# Altium schematic symbol library IC. MCU.SchLib: 24 symbols (part 2 of 2)
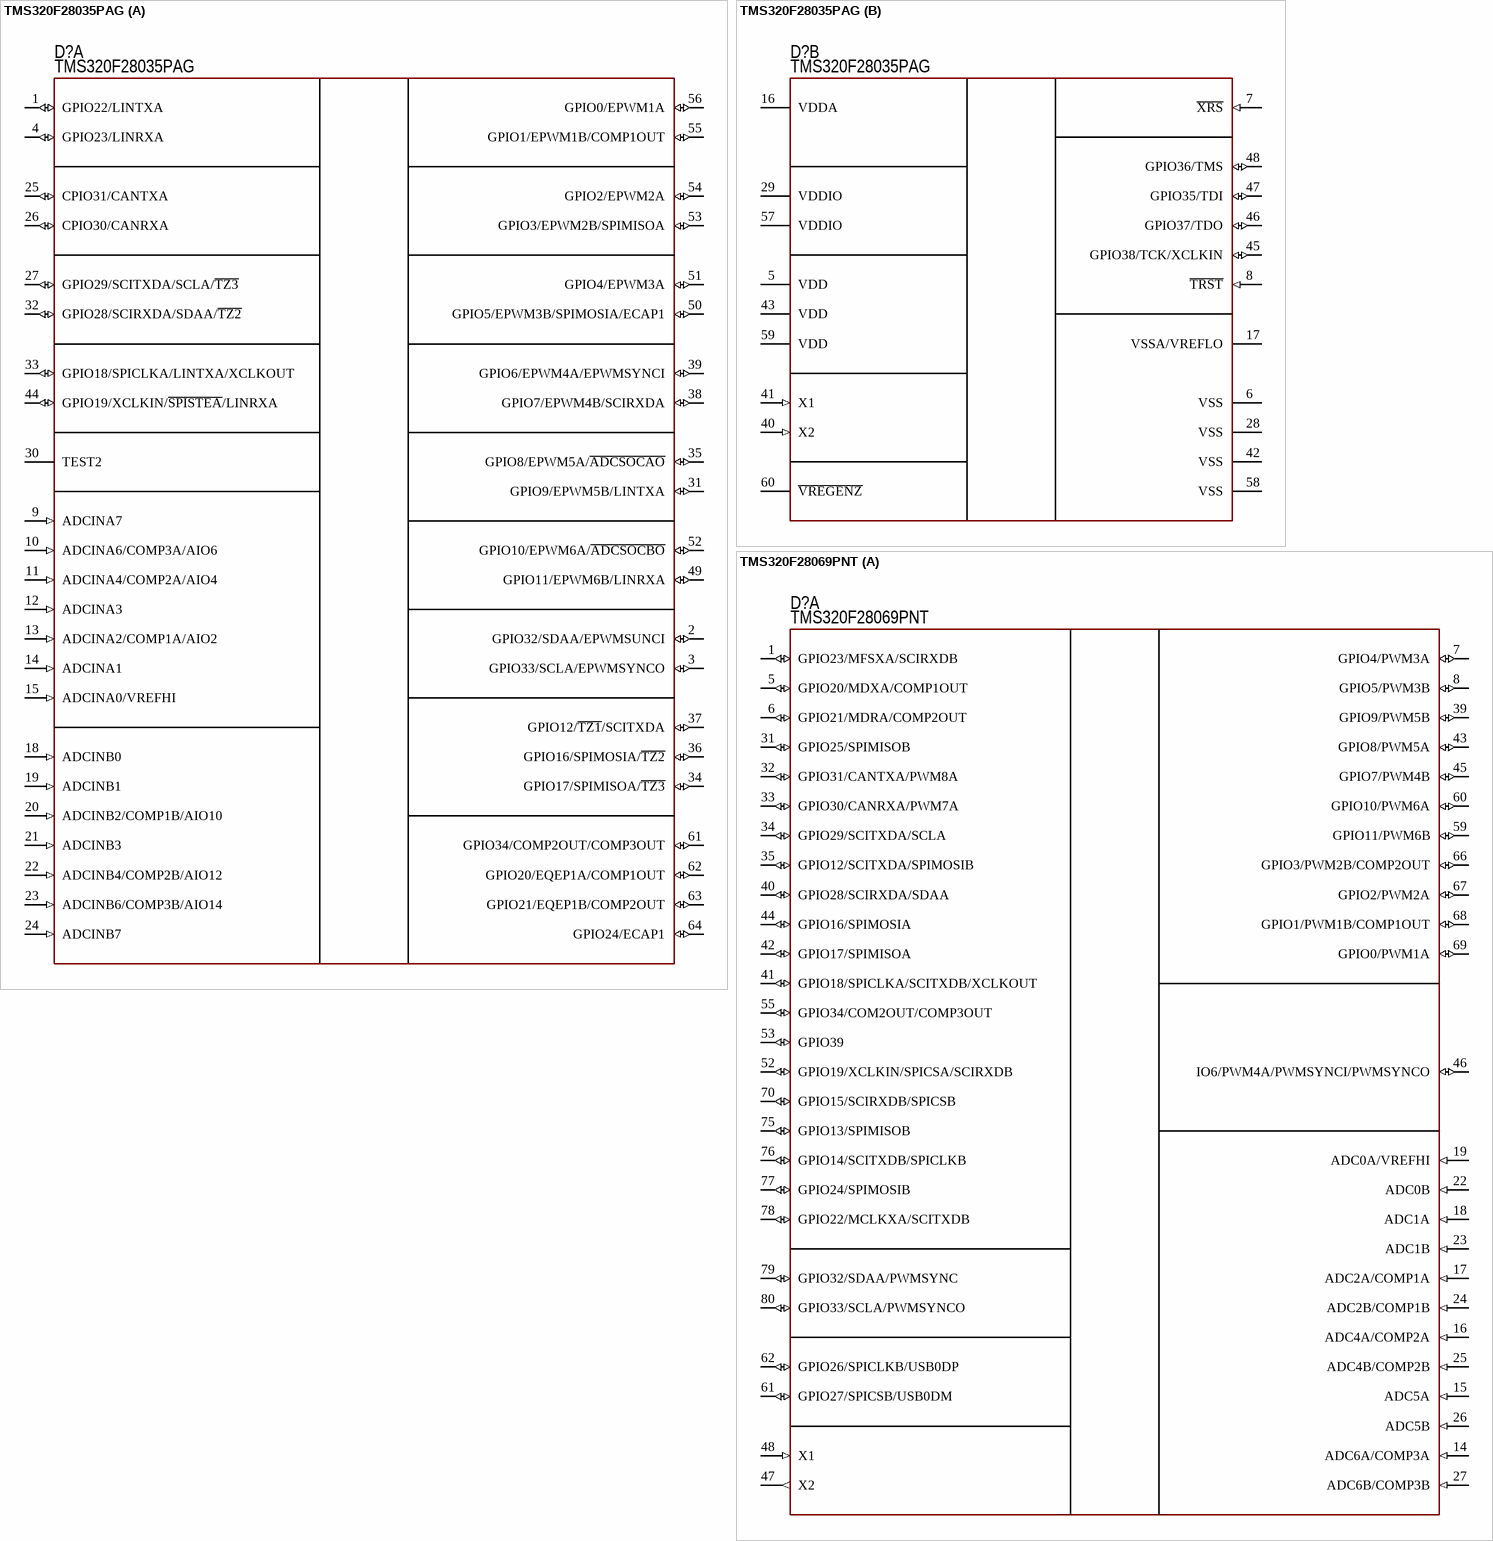
[diagram p12: symbols TMS320F28035PAG to TMS320F28069PNT]

## TMS320F28035PAG
designator D?  PartNumber: TMS320F28035PAG
C28 Piccolo; Manufacturer: Texas Instruments; ValueManufacturerPartNumber: IC motor control, 32-Bit, C28 Piccolo, 60MHz, 128KB, 20KB, 1.71...3.6V, -40...+105°C, 64-TQFP; Supply: 1.71...3.6V; Speed: 60MHz; CoreSize: 32-Bit; MemoryROM: 128KB; MemoryRAM: 20KB; HelpURL: https://www.digikey.com/product-detail/en/texas-instruments/TMS320F28035PAGT/296-32762-ND/2232707; Package: 64-TQFP; ComponentType: IC motor control; Temperature: -40...+105°C; CoreProcessor: C28 Piccolo
footprint 64-LQFP (Thin QFP, 64-Leads, Body 10x10mm, Pitch 0.5mm, IPC Medium Density)
part A pins: 1 GPIO22/LINTXA (io), 2 GPIO32/SDAA/EPWMSUNCI (io), 3 GPIO33/SCLA/EPWMSYNCO (io), 4 GPIO23/LINRXA (io), 9 ADCINA7 (in), 10 ADCINA6/COMP3A/AIO6 (in), 11 ADCINA4/COMP2A/AIO4 (in), 12 ADCINA3 (in), 13 ADCINA2/COMP1A/AIO2 (in), 14 ADCINA1 (in), 15 ADCINA0/VREFHI (in), 18 ADCINB0 (in), 19 ADCINB1 (in), 20 ADCINB2/COMP1B/AIO10 (in), 21 ADCINB3 (in), 22 ADCINB4/COMP2B/AIO12 (in), 23 ADCINB6/COMP3B/AIO14 (in), 24 ADCINB7 (in), 25 CPIO31/CANTXA (io), 26 CPIO30/CANRXA (io), 27 GPIO29/SCITXDA/SCLA/~{TZ3} (io), 30 TEST2, 31 GPIO9/EPWM5B/LINTXA (io), 32 GPIO28/SCIRXDA/SDAA/~{TZ2} (io), 33 GPIO18/SPICLKA/LINTXA/XCLKOUT (io), 34 GPIO17/SPIMISOA/~{TZ3} (io), 35 GPIO8/EPWM5A/~{ADCSOCAO} (io), 36 GPIO16/SPIMOSIA/~{TZ2} (io), 37 GPIO12/~{TZ1}/SCITXDA (io), 38 GPIO7/EPWM4B/SCIRXDA (io), 39 GPIO6/EPWM4A/EPWMSYNCI (io), 44 GPIO19/XCLKIN/~{SPISTEA}/LINRXA (io), 49 GPIO11/EPWM6B/LINRXA (io), 50 GPIO5/EPWM3B/SPIMOSIA/ECAP1 (io), 51 GPIO4/EPWM3A (io), 52 GPIO10/EPWM6A/~{ADCSOCBO} (io), 53 GPIO3/EPWM2B/SPIMISOA (io), 54 GPIO2/EPWM2A (io), 55 GPIO1/EPWM1B/COMP1OUT (io), 56 GPIO0/EPWM1A (io), 61 GPIO34/COMP2OUT/COMP3OUT (io), 62 GPIO20/EQEP1A/COMP1OUT (io), 63 GPIO21/EQEP1B/COMP2OUT (io), 64 GPIO24/ECAP1 (io)
part B pins: 5 VDD, 6 VSS, 7 ~{XRS} (in), 8 ~{TRST} (in), 16 VDDA, 17 VSSA/VREFLO, 28 VSS, 29 VDDIO, 40 X2 (in), 41 X1 (in), 42 VSS, 43 VDD, 45 GPIO38/TCK/XCLKIN (io), 46 GPIO37/TDO (io), 47 GPIO35/TDI (io), 48 GPIO36/TMS (io), 57 VDDIO, 58 VSS, 59 VDD, 60 ~{VREGENZ}

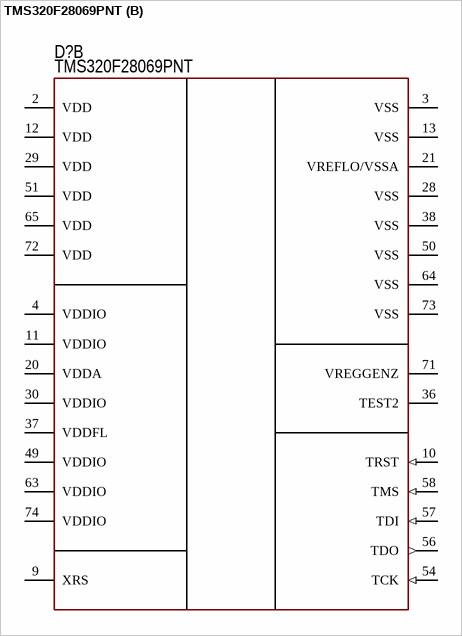
[diagram p11: symbol TMS320F28069PNT]

## TMS320F28069PNT
designator D?  PartNumber: TMS320F28069PNT
C28 Piccolo; Manufacturer: Texas Instruments; ValueManufacturerPartNumber: IC motor control, 32-Bit, C28 Piccolo, 90MHz, 256KB, 100KB, 1.71...3.6V, -40...+105°C, 64-TQFP; Supply: 1.71...3.6V; Speed: 90MHz; CoreSize: 32-Bit; MemoryROM: 256KB; MemoryRAM: 100KB; HelpURL: https://www.digikey.com/products/en?keywords=TMS320F28069PNT; Package: 64-TQFP; ComponentType: IC motor control; Temperature: -40...+105°C; CoreProcessor: C28 Piccolo
footprint 80-LQFP (pitch 0.5 mm)
part A pins: 1 GPIO23/MFSXA/SCIRXDB (io), 5 GPIO20/MDXA/COMP1OUT (io), 6 GPIO21/MDRA/COMP2OUT (io), 7 GPIO4/PWM3A (io), 8 GPIO5/PWM3B (io), 14 ADC6A/COMP3A (in), 15 ADC5A (in), 16 ADC4A/COMP2A (in), 17 ADC2A/COMP1A (in), 18 ADC1A (in), 19 ADC0A/VREFHI (in), 22 ADC0B (in), 23 ADC1B (in), 24 ADC2B/COMP1B (in), 25 ADC4B/COMP2B (in), 26 ADC5B (in), 27 ADC6B/COMP3B (in), 31 GPIO25/SPIMISOB (io), 32 GPIO31/CANTXA/PWM8A (io), 33 GPIO30/CANRXA/PWM7A (io), 34 GPIO29/SCITXDA/SCLA (io), 35 GPIO12/SCITXDA/SPIMOSIB (io), 39 GPIO9/PWM5B (io), 40 GPIO28/SCIRXDA/SDAA (io), 41 GPIO18/SPICLKA/SCITXDB/XCLKOUT (io), 42 GPIO17/SPIMISOA (io), 43 GPIO8/PWM5A (io), 44 GPIO16/SPIMOSIA (io), 45 GPIO7/PWM4B (io), 46 IO6/PWM4A/PWMSYNCI/PWMSYNCO (io), 47 X2 (out), 48 X1 (in), 52 GPIO19/XCLKIN/SPICSA/SCIRXDB (io), 53 GPIO39 (io), 55 GPIO34/COM2OUT/COMP3OUT (io), 59 GPIO11/PWM6B (io), 60 GPIO10/PWM6A (io), 61 GPIO27/SPICSB/USB0DM (io), 62 GPIO26/SPICLKB/USB0DP (io), 66 GPIO3/PWM2B/COMP2OUT (io), 67 GPIO2/PWM2A (io), 68 GPIO1/PWM1B/COMP1OUT (io), 69 GPIO0/PWM1A (io), 70 GPIO15/SCIRXDB/SPICSB (io), 75 GPIO13/SPIMISOB (io), 76 GPIO14/SCITXDB/SPICLKB (io), 77 GPIO24/SPIMOSIB (io), 78 GPIO22/MCLKXA/SCITXDB (io), 79 GPIO32/SDAA/PWMSYNC (io), 80 GPIO33/SCLA/PWMSYNCO (io)
part B pins: 2 VDD, 3 VSS (power), 4 VDDIO (power), 9 XRS, 10 TRST (in), 11 VDDIO (power), 12 VDD (power), 13 VSS (power), 20 VDDA (power), 21 VREFLO/VSSA (power), 28 VSS (power), 29 VDD (power), 30 VDDIO (power), 36 TEST2, 37 VDDFL (power), 38 VSS (power), 49 VDDIO (power), 50 VSS (power), 51 VDD (power), 54 TCK (in), 56 TDO (out), 57 TDI (in), 58 TMS (in), 63 VDDIO (power), 64 VSS (power), 65 VDD (power), 71 VREGGENZ, 72 VDD (power), 73 VSS (power), 74 VDDIO (power)